# EAGLE library part 418311270803 (library Eagle_Wuerth_Elektronik_Switch)
WS-PT 2.54 mm piano type compact SMD Dip Switch with raised actuator, 3 Pole
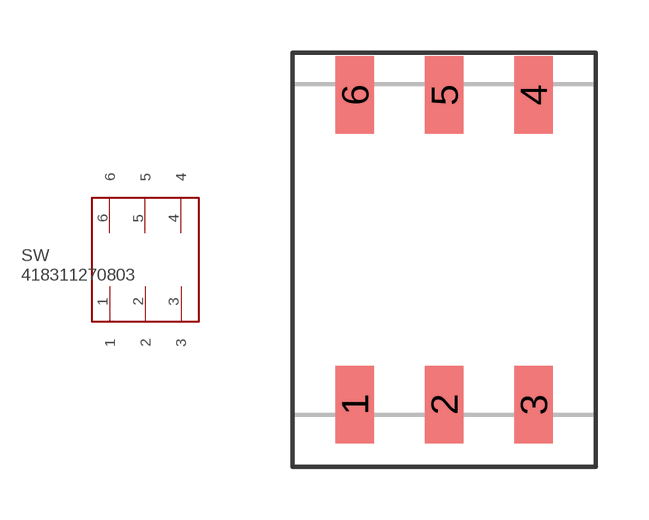
[diagram p117: symbol with the pads of 418311270803; footprint 418311270803]

Designator prefix SW

## 418311270803  [418311270803]
1  1
2  2
3  3
4  4
5  5
6  6

## Footprint 418311270803 (pad centres in mm)
WS-PT 2.54 mm piano type compact SMD Dip Switch with raised actuator, 3 Pole
smd 1.1 x 2.2: 1 0,-4.4; 2 2.54,-4.4; 3 5.08,-4.4; 4 5.08,4.4; 5 2.54,4.4; 6 0,4.4